# EAGLE library part CD4515BM96E4 (library SolarJackets_Common)
4-to-16 Demux Package SOIC-24 3-18V Supply
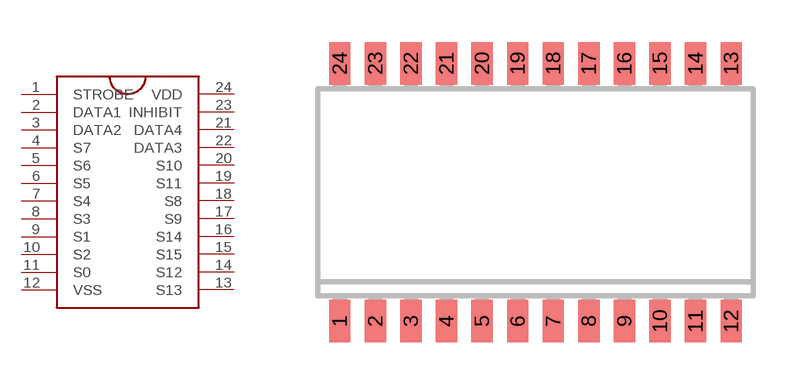
[diagram p8: symbol with the pads of SOIC-24; footprint SOIC-24]

Designator prefix -

## CD4515BM96E4  [SOIC-24]
1  STROBE
2  DATA1
3  DATA2
4  S7
5  S6
6  S5
7  S4
8  S3
9  S1
10  S2
11  S0
12  VSS
13  S13
14  S12
15  S15
16  S14
17  S9
18  S8
19  S11
20  S10
21  DATA4
22  DATA3
23  INHIBIT
24  VDD

## Footprint SOIC-24 (pad centres in mm)
SMALL OUTLINE INTEGRATED CIRCUIT wide body 7.5 mm/JEDEC MO-119AA
smd 0.762 x 1.524: 1 -6.985,-4.6; 2 -5.715,-4.6; 3 -4.445,-4.6; 4 -3.175,-4.6; 5 -1.905,-4.6; 6 -0.635,-4.6; 7 0.635,-4.6; 8 1.905,-4.6; 9 3.175,-4.6; 10 4.445,-4.6; 11 5.715,-4.6; 12 6.985,-4.6; 13 6.985,4.6; 14 5.715,4.6; 15 4.445,4.6; 16 3.175,4.6; 17 1.905,4.6; 18 0.635,4.6; 19 -0.635,4.6; 20 -1.905,4.6; 21 -3.175,4.6; 22 -4.445,4.6; 23 -5.715,4.6; 24 -6.985,4.6